# Altium integrated library pedals-potentiometers.IntLib: 59 symbols
Pins are listed as number, name and electrical type; pins without a type are passive.

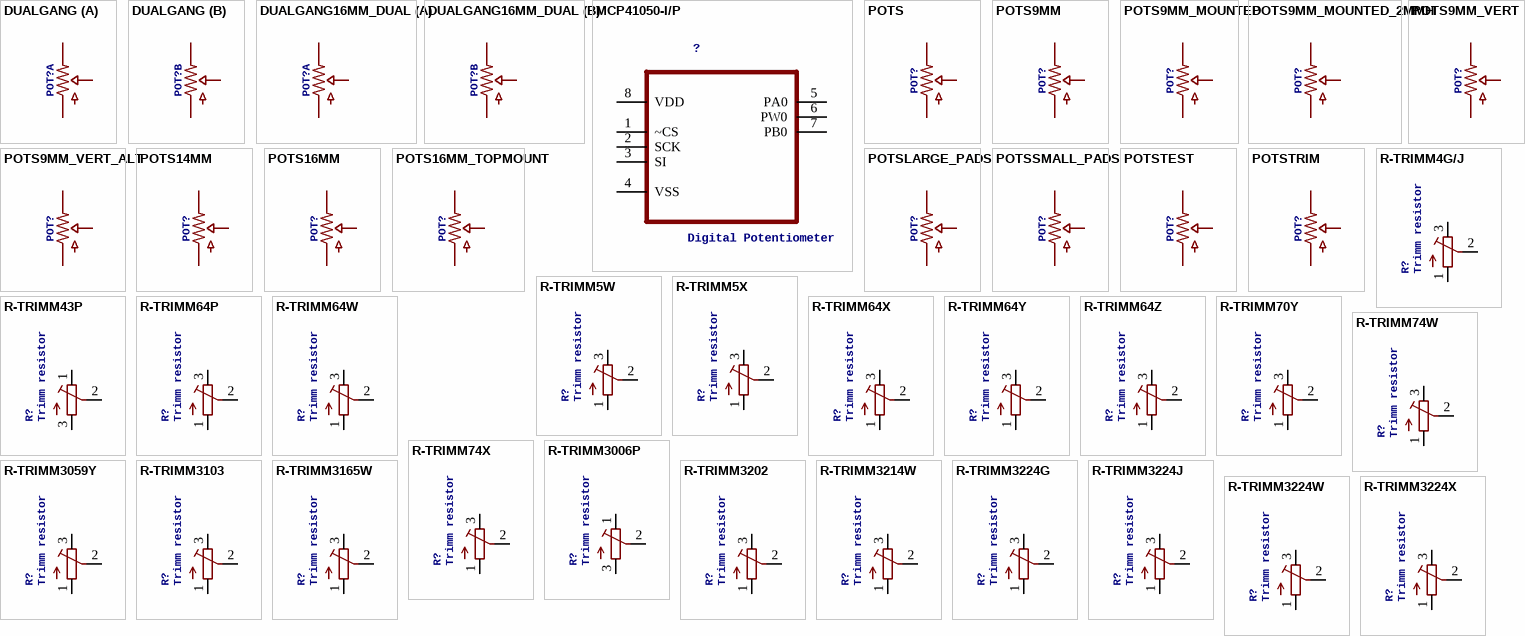
[diagram p0: symbols DUALGANG to R-TRIMM3224X]

## DUALGANG
designator POT?
footprint 9MM_DUALGANG
part A pins: 1, 2, 3
part B pins: 4 1, 5 2, 6 3

## DUALGANG16MM_DUAL
designator POT?
footprint 16MM_DUAL
part A pins: 1, 2, 3
part B pins: 4 1, 5 2, 6 3

## MCP41050-I/P
designator ?, comment Digital Potentiometer
MPN: MCP41050-I/P; OC_FARNELL: 1292243; OC_NEWARK: 59K0227; PACKAGE: DIP-8; SUPPLIER: Microchip
footprint DIP254P762X432-8
pins: 1 ~CS, 2 SCK, 3 SI, 4 VSS, 5 PA0, 6 PW0, 7 PB0, 8 VDD (power)

## POTS
designator POT?
footprint 16MM_CENTERMOUNT
pins: 1, 2, 3

## POTS9MM
designator POT?
footprint 9MM
pins: P$1 1, P$2 2, P$3 3

## POTS9MM_MOUNTED
designator POT?
footprint 9MM_W/MOUNTS
pins: P$1 1, P$2 2, P$3 3

## POTS9MM_MOUNTED_2MMH
designator POT?
footprint 9MM_W/MOUNTS-2MMHOLES
pins: P$1 1, P$2 2, P$3 3

## POTS9MM_VERT
designator POT?
footprint 9MM_VERT
pins: 1, 2, 3

## POTS9MM_VERT_ALT
designator POT?
footprint 9MM_VERT_ALT
pins: 1, 2, 3

## POTS14MM
designator POT?
footprint 14MM
pins: P$1 1, P$2 2, P$3 3

## POTS16MM
designator POT?
footprint 16MM
pins: 1, 2, 3

## POTS16MM_TOPMOUNT
designator POT?
footprint 16MM_TOPMOUNT
pins: 1, 2, 3

## POTSLARGE_PADS
designator POT?
footprint PADS_LARGE
pins: 1, 2, 3

## POTSSMALL_PADS
designator POT?
footprint PADS_SMALL
pins: 1, 2, 3

## POTSTEST
designator POT?
footprint RTRIM3296W
pins: 1, 2, 3

## POTSTRIM
designator POT?
footprint 2262_TRIM
pins: 1, 2, 3

## R-TRIMM4G/J
designator R?, comment Trimm resistor
footprint RTRIM4G/J
pins: 1 A, 2 S, 3 E

## R-TRIMM5W
designator R?, comment Trimm resistor
footprint RTRIM5W
pins: 1 A, 2 S, 3 E

## R-TRIMM5X
designator R?, comment Trimm resistor
footprint RTRIM5X
pins: 1 A, 2 S, 3 E

## R-TRIMM43P
designator R?, comment Trimm resistor
footprint RTRIM43P
pins: 1 E, 2 S, 3 A

## R-TRIMM64P
designator R?, comment Trimm resistor
footprint RTRIM64P
pins: 1 A, 2 S, 3 E

## R-TRIMM64W
designator R?, comment Trimm resistor
footprint RTRIM64W
pins: 1 A, 2 S, 3 E

## R-TRIMM64X
designator R?, comment Trimm resistor
footprint RTRIM64X
pins: 1 A, 2 S, 3 E

## R-TRIMM64Y
designator R?, comment Trimm resistor
footprint RTRIM64Y
pins: 1 A, 2 S, 3 E

## R-TRIMM64Z
designator R?, comment Trimm resistor
footprint RTRIM64Z
pins: 1 A, 2 S, 3 E

## R-TRIMM70Y
designator R?, comment Trimm resistor
footprint RTRIM70Y
pins: 1 A, 2 S, 3 E

## R-TRIMM74W
designator R?, comment Trimm resistor
footprint RTRIM74W
pins: 1 A, 2 S, 3 E

## R-TRIMM74X
designator R?, comment Trimm resistor
footprint RTRIM74X
pins: 1 A, 2 S, 3 E

## R-TRIMM3006P
designator R?, comment Trimm resistor
footprint RTRIM3006P
pins: 1 E, 2 S, 3 A

## R-TRIMM3059Y
designator R?, comment Trimm resistor
footprint RTRIM3059Y
pins: 1 A, 2 S, 3 E

## R-TRIMM3103
designator R?, comment Trimm resistor
footprint RTRIM3103
pins: 1 A, 2 S, 3 E

## R-TRIMM3165W
designator R?, comment Trimm resistor
footprint RTRIM3165W
pins: 1 A, 2 S, 3 E

## R-TRIMM3202
designator R?, comment Trimm resistor
footprint RTRIM3202
pins: 1 A, 2 S, 3 E

## R-TRIMM3214W
designator R?, comment Trimm resistor
footprint RTRIM3214W
pins: 1 A, 2 S, 3 E

## R-TRIMM3224G
designator R?, comment Trimm resistor
footprint RTRIM3224G
pins: 1 A, 2 S, 3 E

## R-TRIMM3224J
designator R?, comment Trimm resistor
footprint RTRIM3224J
pins: 1 A, 2 S, 3 E

## R-TRIMM3224W
designator R?, comment Trimm resistor
footprint RTRIM3224W
pins: 1 A, 2 S, 3 E

## R-TRIMM3224X
designator R?, comment Trimm resistor
footprint RTRIM3224X
pins: 1 A, 2 S, 3 E

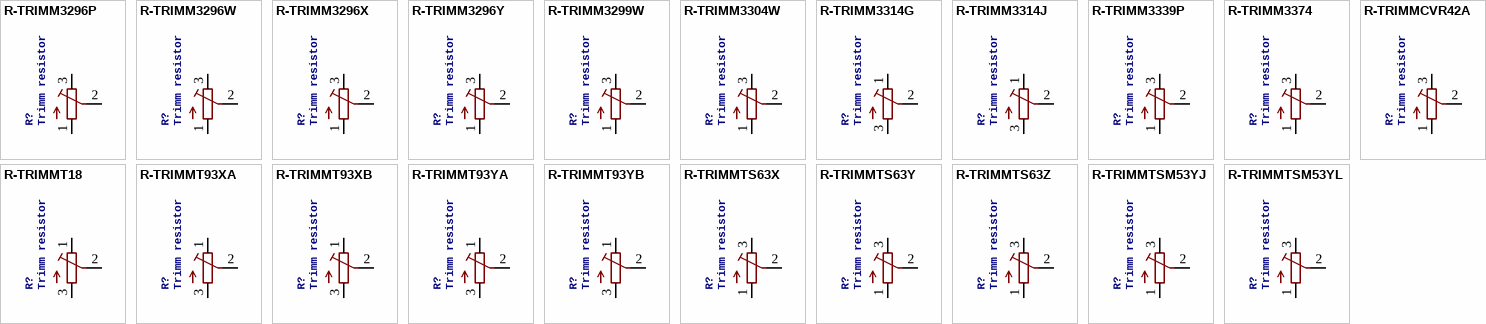
[diagram p1: symbols R-TRIMM3296P to R-TRIMMTSM53YL]

## R-TRIMM3296P
designator R?, comment Trimm resistor
footprint RTRIM3296P
pins: 1 A, 2 S, 3 E

## R-TRIMM3296W
designator R?, comment Trimm resistor
footprint RTRIM3296W
pins: 1 A, 2 S, 3 E

## R-TRIMM3296X
designator R?, comment Trimm resistor
footprint RTRIM3296X
pins: 1 A, 2 S, 3 E

## R-TRIMM3296Y
designator R?, comment Trimm resistor
footprint RTRIM3296Y
pins: 1 A, 2 S, 3 E

## R-TRIMM3299W
designator R?, comment Trimm resistor
footprint RTRIM3299W
pins: 1 A, 2 S, 3 E

## R-TRIMM3304W
designator R?, comment Trimm resistor
footprint RTRIM3304W
pins: 1 A, 2 S, 3 E

## R-TRIMM3314G
designator R?, comment Trimm resistor
footprint RTRIM3314G
pins: 1 E, 2 S, 3 A

## R-TRIMM3314J
designator R?, comment Trimm resistor
footprint RTRIM3314J
pins: 1 E, 2 S, 3 A

## R-TRIMM3339P
designator R?, comment Trimm resistor
footprint RTRIM3339P
pins: 1 A, 2 S, 3 E

## R-TRIMM3374
designator R?, comment Trimm resistor
footprint RTRIM3374
pins: 1 A, 2 S, 3 E

## R-TRIMMCVR42A
designator R?, comment Trimm resistor
footprint RTRIMCVR42A
pins: 1 A, 2 S, 3 E

## R-TRIMMT18
designator R?, comment Trimm resistor
footprint RTRIMT18
pins: 1 E, 2 S, 3 A

## R-TRIMMT93XA
designator R?, comment Trimm resistor
footprint RTRIMT93XA
pins: 1 E, 2 S, 3 A

## R-TRIMMT93XB
designator R?, comment Trimm resistor
footprint RTRIMT93XB
pins: 1 E, 2 S, 3 A

## R-TRIMMT93YA
designator R?, comment Trimm resistor
footprint RTRIMT93YA
pins: 1 E, 2 S, 3 A

## R-TRIMMT93YB
designator R?, comment Trimm resistor
footprint RTRIMT93YB
pins: 1 E, 2 S, 3 A

## R-TRIMMTS63X
designator R?, comment Trimm resistor
footprint RTRIMTS63X
pins: 1 A, 2 S, 3 E

## R-TRIMMTS63Y
designator R?, comment Trimm resistor
footprint RTRIMTS63Y
pins: 1 A, 2 S, 3 E

## R-TRIMMTS63Z
designator R?, comment Trimm resistor
footprint RTRIMTS63Z
pins: 1 A, 2 S, 3 E

## R-TRIMMTSM53YJ
designator R?, comment Trimm resistor
footprint RTRIMTSM53YJ
pins: 1 A, 2 S, 3 E

## R-TRIMMTSM53YL
designator R?, comment Trimm resistor
footprint RTRIMTSM53YL
pins: 1 A, 2 S, 3 E